# Altium schematic symbol library kmilo17pet-Maxim_Sensors.SchLib: 1172 symbols (part 5 of 61)
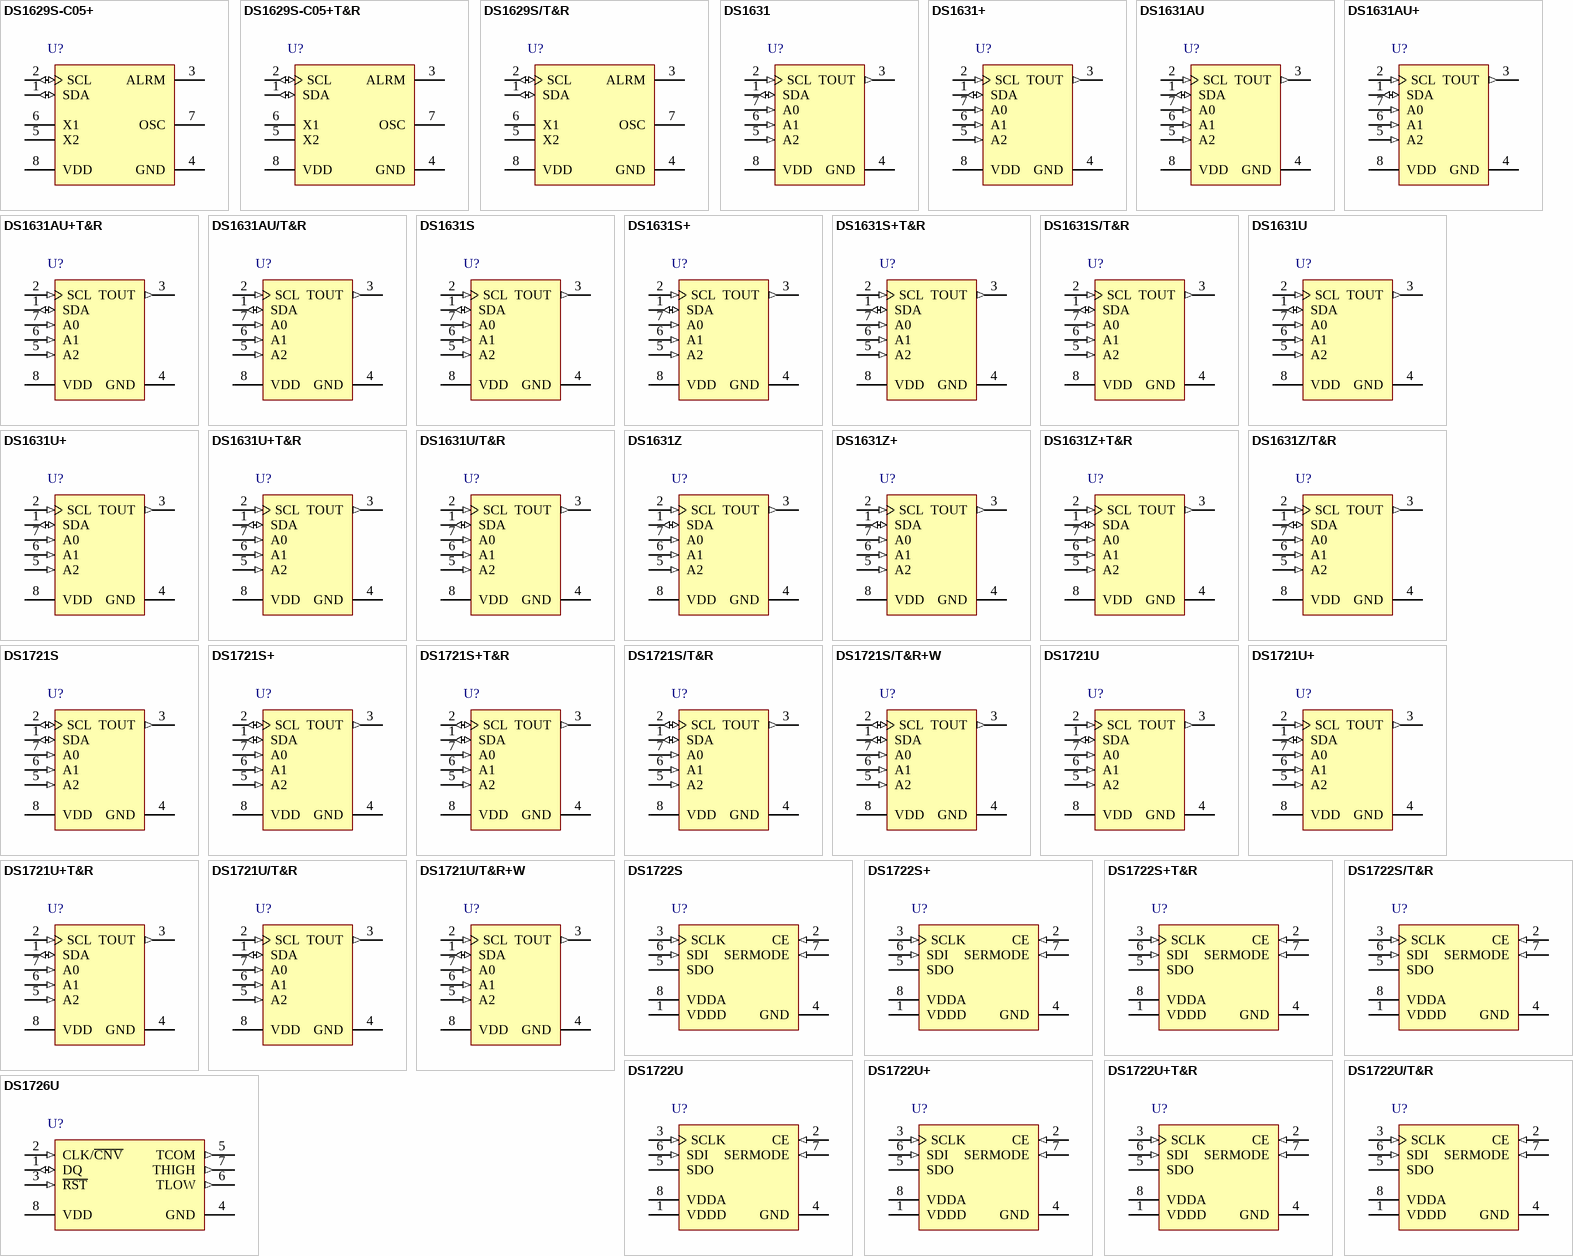
[diagram p37: symbols DS1629S-C05+ to DS1726U]

## DS1722S
designator U?
3-Wire / SPI Digital Thermometer, 8 to 12 Bits Temperature Resolution, -55 to 125 degC, 8-Pin SOIC (S8-2); Generic Part Number: DS1722; PartNumber: DS1722S; Parasite Pwr.: No; DatasheetVersion: Rev. 4; PackageVersion: Rev. D, 10/2012; PackageReference: S8-2; PackageDescription: 8-Pin Small-Outline IC, Narrow (0.15in) (S8-2), Body 4.90 x 3.90 mm, Pitch 1.27 mm; Supplier 1: Digi-Key; Supplier Part Number 1: DS1722S-ND; Supplier 2: Newark; Supplier Part Number 2: 16C2113; Supplier 3: Mouser; Supplier Part Number 3: 700-DS1722S-NR; Interface: 3-Wire/SPI; Mounting Technology: Surface Mount; Code_JEDEC: MS012; ComponentLink1Description: Manufacturer URL; ComponentLink1URL: http://www.maximintegrated.com/; ComponentLink2Description: Datasheet; ComponentLink2URL: http://datasheets.maximintegrated.com/en/ds/DS1722.pdf; ComponentLink3Description: Package Specification; ComponentLink3URL: http://pdfserv.maximintegrated.com/package_dwgs/21-0041.PDF
footprint MAXM-S8-2_N (SOIC, 8-Leads, Body 4.90x3.90mm, Pitch 1.27mm, IPC Medium Density)
footprint MAXM-S8-2_L (SOIC, 8-Leads, Body 4.90x3.90mm, Pitch 1.27mm, IPC High Density)
footprint MAXM-S8-2_M (SOIC, 8-Leads, Body 4.90x3.90mm, Pitch 1.27mm, IPC Low Density)
pins: 1 VDDD (power) "Digital Supply Voltage 1.8V-5.5V. Defines the top rails for the digital inputs and outputs.", 2 CE (in) "Chip Enable Must be asserted high for communication to take place for either the SPI or 3-wire interface.", 3 SCLK (in) "Serial Clock Input Used to synchronize data movement on the serial interface for either the SPI or 3-wire interface.", 4 GND (power) "Ground pin.", 5 SDO (hiz) "Serial Data Output When SPI communication is selected, the SDO pin is the serial data output for the SPI bus. When 3-wire communication is selected, this pin must be tied to the SDI pin (the SDI and SDO pins function as a (See Datasheet)", 6 SDI (in) "Serial Data Input When SPI communication is selected, the SDI pin is the serial data input for the SPI bus. When 3-wire communication is selected, this pin must be tied to the SDO pin (the SDI and SDO pins function as a (See Datasheet)", 7 SERMODE (in) "Serial Interface Mode Input This pin selects which interface standard will be used: SPI when connected to VCC ; standard 3-wire when connected to GND.", 8 VDDA (power) "Analog Supply Voltage 2.65V - 5.5V input power pin."

## DS1722S+
designator U?
3-Wire / SPI Digital Thermometer, 8 to 12 Bits Temperature Resolution, -55 to 125 degC, 8-Pin SOIC (S8+2), Pb-Free; Generic Part Number: DS1722; PartNumber: DS1722S+; Parasite Pwr.: No; DatasheetVersion: Rev. 4; PackageVersion: Rev. D, 10/2012; PackageReference: S8+2; PackageDescription: 8-Pin Small-Outline IC, Narrow (0.15in) (S8+2), Body 4.90 x 3.90 mm, Pitch 1.27 mm; Supplier 1: Digi-Key; Supplier Part Number 1: DS1722S+-ND; Supplier 2: Farnell; Supplier Part Number 2: 9724753; Supplier 3: Newark; Supplier Part Number 3: 91K6823; Supplier 4: Mouser; Supplier Part Number 4: 700-DS1722S; Interface: 3-Wire/SPI; Mounting Technology: Surface Mount; Code_JEDEC: MS012; ComponentLink1Description: Manufacturer URL; ComponentLink1URL: http://www.maximintegrated.com/; ComponentLink2Description: Datasheet; ComponentLink2URL: http://datasheets.maximintegrated.com/en/ds/DS1722.pdf; ComponentLink3Description: Package Specification; ComponentLink3URL: http://pdfserv.maximintegrated.com/package_dwgs/21-0041.PDF
footprint MAXM-S8+2_N (SOIC, 8-Leads, Body 4.90x3.90mm, Pitch 1.27mm, IPC Medium Density)
footprint MAXM-S8+2_L (SOIC, 8-Leads, Body 4.90x3.90mm, Pitch 1.27mm, IPC High Density)
footprint MAXM-S8+2_M (SOIC, 8-Leads, Body 4.90x3.90mm, Pitch 1.27mm, IPC Low Density)
pins: 1 VDDD (power) "Digital Supply Voltage 1.8V-5.5V. Defines the top rails for the digital inputs and outputs.", 2 CE (in) "Chip Enable Must be asserted high for communication to take place for either the SPI or 3-wire interface.", 3 SCLK (in) "Serial Clock Input Used to synchronize data movement on the serial interface for either the SPI or 3-wire interface.", 4 GND (power) "Ground pin.", 5 SDO (hiz) "Serial Data Output When SPI communication is selected, the SDO pin is the serial data output for the SPI bus. When 3-wire communication is selected, this pin must be tied to the SDI pin (the SDI and SDO pins function as a (See Datasheet)", 6 SDI (in) "Serial Data Input When SPI communication is selected, the SDI pin is the serial data input for the SPI bus. When 3-wire communication is selected, this pin must be tied to the SDO pin (the SDI and SDO pins function as a (See Datasheet)", 7 SERMODE (in) "Serial Interface Mode Input This pin selects which interface standard will be used: SPI when connected to VCC ; standard 3-wire when connected to GND.", 8 VDDA (power) "Analog Supply Voltage 2.65V - 5.5V input power pin."

## DS1722S+T&R
designator U?
3-Wire / SPI Digital Thermometer, 8 to 12 Bits Temperature Resolution, -55 to 125 degC, 8-Pin SOIC (S8+2), Pb-Free, Tape and Reel; Generic Part Number: DS1722; PartNumber: DS1722S+T&R; Parasite Pwr.: No; DatasheetVersion: Rev. 4; PackageVersion: Rev. D, 10/2012; PackageReference: S8+2; PackageDescription: 8-Pin Small-Outline IC, Narrow (0.15in) (S8+2), Body 4.90 x 3.90 mm, Pitch 1.27 mm; Supplier 1: Digi-Key; Supplier Part Number 1: DS1722S+TR-ND; Supplier 2: Digi-Key; Supplier Part Number 2: DS1722S+CT-ND; Supplier 3: Mouser; Supplier Part Number 3: 700-DS1722ST&R; Interface: 3-Wire/SPI; Packing: Tape and Reel; Mounting Technology: Surface Mount; Code_JEDEC: MS012; ComponentLink1Description: Manufacturer URL; ComponentLink1URL: http://www.maximintegrated.com/; ComponentLink2Description: Datasheet; ComponentLink2URL: http://datasheets.maximintegrated.com/en/ds/DS1722.pdf; ComponentLink3Description: Package Specification; ComponentLink3URL: http://pdfserv.maximintegrated.com/package_dwgs/21-0041.PDF
footprint MAXM-S8+2_N (SOIC, 8-Leads, Body 4.90x3.90mm, Pitch 1.27mm, IPC Medium Density)
footprint MAXM-S8+2_L (SOIC, 8-Leads, Body 4.90x3.90mm, Pitch 1.27mm, IPC High Density)
footprint MAXM-S8+2_M (SOIC, 8-Leads, Body 4.90x3.90mm, Pitch 1.27mm, IPC Low Density)
pins: 1 VDDD (power) "Digital Supply Voltage 1.8V-5.5V. Defines the top rails for the digital inputs and outputs.", 2 CE (in) "Chip Enable Must be asserted high for communication to take place for either the SPI or 3-wire interface.", 3 SCLK (in) "Serial Clock Input Used to synchronize data movement on the serial interface for either the SPI or 3-wire interface.", 4 GND (power) "Ground pin.", 5 SDO (hiz) "Serial Data Output When SPI communication is selected, the SDO pin is the serial data output for the SPI bus. When 3-wire communication is selected, this pin must be tied to the SDI pin (the SDI and SDO pins function as a (See Datasheet)", 6 SDI (in) "Serial Data Input When SPI communication is selected, the SDI pin is the serial data input for the SPI bus. When 3-wire communication is selected, this pin must be tied to the SDO pin (the SDI and SDO pins function as a (See Datasheet)", 7 SERMODE (in) "Serial Interface Mode Input This pin selects which interface standard will be used: SPI when connected to VCC ; standard 3-wire when connected to GND.", 8 VDDA (power) "Analog Supply Voltage 2.65V - 5.5V input power pin."

## DS1722S/T&R
designator U?
3-Wire / SPI Digital Thermometer, 8 to 12 Bits Temperature Resolution, -55 to 125 degC, 8-Pin SOIC (S8-2), Tape and Reel; Generic Part Number: DS1722; PartNumber: DS1722S/T&R; Parasite Pwr.: No; DatasheetVersion: Rev. 4; PackageVersion: Rev. D, 10/2012; PackageReference: S8-2; PackageDescription: 8-Pin Small-Outline IC, Narrow (0.15in) (S8-2), Body 4.90 x 3.90 mm, Pitch 1.27 mm; Supplier 1: Digi-Key; Supplier Part Number 1: DS1722S/T&R-ND; Supplier 2: Mouser; Supplier Part Number 2: N/A; Interface: 3-Wire/SPI; Packing: Tape and Reel; Mounting Technology: Surface Mount; Code_JEDEC: MS012; ComponentLink1Description: Manufacturer URL; ComponentLink1URL: http://www.maximintegrated.com/; ComponentLink2Description: Datasheet; ComponentLink2URL: http://datasheets.maximintegrated.com/en/ds/DS1722.pdf; ComponentLink3Description: Package Specification; ComponentLink3URL: http://pdfserv.maximintegrated.com/package_dwgs/21-0041.PDF
footprint MAXM-S8-2_N (SOIC, 8-Leads, Body 4.90x3.90mm, Pitch 1.27mm, IPC Medium Density)
footprint MAXM-S8-2_L (SOIC, 8-Leads, Body 4.90x3.90mm, Pitch 1.27mm, IPC High Density)
footprint MAXM-S8-2_M (SOIC, 8-Leads, Body 4.90x3.90mm, Pitch 1.27mm, IPC Low Density)
pins: 1 VDDD (power) "Digital Supply Voltage 1.8V-5.5V. Defines the top rails for the digital inputs and outputs.", 2 CE (in) "Chip Enable Must be asserted high for communication to take place for either the SPI or 3-wire interface.", 3 SCLK (in) "Serial Clock Input Used to synchronize data movement on the serial interface for either the SPI or 3-wire interface.", 4 GND (power) "Ground pin.", 5 SDO (hiz) "Serial Data Output When SPI communication is selected, the SDO pin is the serial data output for the SPI bus. When 3-wire communication is selected, this pin must be tied to the SDI pin (the SDI and SDO pins function as a (See Datasheet)", 6 SDI (in) "Serial Data Input When SPI communication is selected, the SDI pin is the serial data input for the SPI bus. When 3-wire communication is selected, this pin must be tied to the SDO pin (the SDI and SDO pins function as a (See Datasheet)", 7 SERMODE (in) "Serial Interface Mode Input This pin selects which interface standard will be used: SPI when connected to VCC ; standard 3-wire when connected to GND.", 8 VDDA (power) "Analog Supply Voltage 2.65V - 5.5V input power pin."

## DS1722U
designator U?
3-Wire / SPI Digital Thermometer, 8 to 12 Bits Temperature Resolution, -55 to 125 degC, 8-Pin SOP (U8-1); Generic Part Number: DS1722; PartNumber: DS1722U; Parasite Pwr.: No; DatasheetVersion: Rev. 4; PackageVersion: Rev. L, 08/2009; PackageReference: U8-1; PackageDescription: 8-Pin Micro-MAX, Thin Shrink Small-Outline (U8-1), Body 3 x 3 mm, Pitch 0.65mm; Supplier 1: Digi-Key; Supplier Part Number 1: DS1722U-ND; Supplier 2: Mouser; Supplier Part Number 2: N/A; Interface: 3-Wire/SPI; Mounting Technology: Surface Mount; Code_JEDEC: MO-187; ComponentLink1Description: Manufacturer URL; ComponentLink1URL: http://www.maximintegrated.com/; ComponentLink2Description: Datasheet; ComponentLink2URL: http://datasheets.maximintegrated.com/en/ds/DS1722.pdf; ComponentLink3Description: Package Specification; ComponentLink3URL: http://pdfserv.maximintegrated.com/package_dwgs/21-0036.PDF
footprint MAXM-U8-1_N (SOP, 8-Leads, Body 3x3mm, Pitch 0.65mm, IPC Medium Density)
footprint MAXM-U8-1_L (SOP, 8-Leads, Body 3x3mm, Pitch 0.65mm, IPC High Density)
footprint MAXM-U8-1_M (SOP, 8-Leads, Body 3x3mm, Pitch 0.65mm, IPC Low Density)
pins: 1 VDDD (power) "Digital Supply Voltage 1.8V-5.5V. Defines the top rails for the digital inputs and outputs.", 2 CE (in) "Chip Enable Must be asserted high for communication to take place for either the SPI or 3-wire interface.", 3 SCLK (in) "Serial Clock Input Used to synchronize data movement on the serial interface for either the SPI or 3-wire interface.", 4 GND (power) "Ground pin.", 5 SDO (hiz) "Serial Data Output When SPI communication is selected, the SDO pin is the serial data output for the SPI bus. When 3-wire communication is selected, this pin must be tied to the SDI pin (the SDI and SDO pins function as a (See Datasheet)", 6 SDI (in) "Serial Data Input When SPI communication is selected, the SDI pin is the serial data input for the SPI bus. When 3-wire communication is selected, this pin must be tied to the SDO pin (the SDI and SDO pins function as a (See Datasheet)", 7 SERMODE (in) "Serial Interface Mode Input This pin selects which interface standard will be used: SPI when connected to VCC ; standard 3-wire when connected to GND.", 8 VDDA (power) "Analog Supply Voltage 2.65V - 5.5V input power pin."

## DS1722U+
designator U?
3-Wire / SPI Digital Thermometer, 8 to 12 Bits Temperature Resolution, -55 to 125 degC, 8-Pin SOP (U8+1), Pb-Free; Generic Part Number: DS1722; PartNumber: DS1722U+; Parasite Pwr.: No; DatasheetVersion: Rev. 4; PackageVersion: Rev. L, 08/2009; PackageReference: U8+1; PackageDescription: 8-Pin Micro-MAX, Thin Shrink Small-Outline (U8+1), Body 3 x 3 mm, Pitch 0.65 mm; Supplier 1: Digi-Key; Supplier Part Number 1: DS1722U+-ND; Supplier 2: Mouser; Supplier Part Number 2: 700-DS1722U; Interface: 3-Wire/SPI; Mounting Technology: Surface Mount; Code_JEDEC: MO-187; ComponentLink1Description: Manufacturer URL; ComponentLink1URL: http://www.maximintegrated.com/; ComponentLink2Description: Datasheet; ComponentLink2URL: http://datasheets.maximintegrated.com/en/ds/DS1722.pdf; ComponentLink3Description: Package Specification; ComponentLink3URL: http://pdfserv.maximintegrated.com/package_dwgs/21-0036.PDF
footprint MAXM-U8+1_N (SOP, 8-Leads, Body 3x3mm, Pitch 0.65mm, IPC Medium Density)
footprint MAXM-U8+1_L (SOP, 8-Leads, Body 3x3mm, Pitch 0.65mm, IPC High Density)
footprint MAXM-U8+1_M (SOP, 8-Leads, Body 3x3mm, Pitch 0.65mm, IPC Low Density)
pins: 1 VDDD (power) "Digital Supply Voltage 1.8V-5.5V. Defines the top rails for the digital inputs and outputs.", 2 CE (in) "Chip Enable Must be asserted high for communication to take place for either the SPI or 3-wire interface.", 3 SCLK (in) "Serial Clock Input Used to synchronize data movement on the serial interface for either the SPI or 3-wire interface.", 4 GND (power) "Ground pin.", 5 SDO (hiz) "Serial Data Output When SPI communication is selected, the SDO pin is the serial data output for the SPI bus. When 3-wire communication is selected, this pin must be tied to the SDI pin (the SDI and SDO pins function as a (See Datasheet)", 6 SDI (in) "Serial Data Input When SPI communication is selected, the SDI pin is the serial data input for the SPI bus. When 3-wire communication is selected, this pin must be tied to the SDO pin (the SDI and SDO pins function as a (See Datasheet)", 7 SERMODE (in) "Serial Interface Mode Input This pin selects which interface standard will be used: SPI when connected to VCC ; standard 3-wire when connected to GND.", 8 VDDA (power) "Analog Supply Voltage 2.65V - 5.5V input power pin."

## DS1722U+T&R
designator U?
3-Wire / SPI Digital Thermometer, 8 to 12 Bits Temperature Resolution, -55 to 125 degC, 8-Pin SOP (U8+1), Pb-Free, Tape and Reel; Generic Part Number: DS1722; PartNumber: DS1722U+T&R; Parasite Pwr.: No; DatasheetVersion: Rev. 4; PackageVersion: Rev. L, 08/2009; PackageReference: U8+1; PackageDescription: 8-Pin Micro-MAX, Thin Shrink Small-Outline (U8+1), Body 3 x 3 mm, Pitch 0.65 mm; Supplier 1: Digi-Key; Supplier Part Number 1: DS1722U+T&R-ND; Supplier 2: Mouser; Supplier Part Number 2: 700-DS1722UT&R; Interface: 3-Wire/SPI; Packing: Tape and Reel; Mounting Technology: Surface Mount; Code_JEDEC: MO-187; ComponentLink1Description: Manufacturer URL; ComponentLink1URL: http://www.maximintegrated.com/; ComponentLink2Description: Datasheet; ComponentLink2URL: http://datasheets.maximintegrated.com/en/ds/DS1722.pdf; ComponentLink3Description: Package Specification; ComponentLink3URL: http://pdfserv.maximintegrated.com/package_dwgs/21-0036.PDF
footprint MAXM-U8+1_N (SOP, 8-Leads, Body 3x3mm, Pitch 0.65mm, IPC Medium Density)
footprint MAXM-U8+1_L (SOP, 8-Leads, Body 3x3mm, Pitch 0.65mm, IPC High Density)
footprint MAXM-U8+1_M (SOP, 8-Leads, Body 3x3mm, Pitch 0.65mm, IPC Low Density)
pins: 1 VDDD (power) "Digital Supply Voltage 1.8V-5.5V. Defines the top rails for the digital inputs and outputs.", 2 CE (in) "Chip Enable Must be asserted high for communication to take place for either the SPI or 3-wire interface.", 3 SCLK (in) "Serial Clock Input Used to synchronize data movement on the serial interface for either the SPI or 3-wire interface.", 4 GND (power) "Ground pin.", 5 SDO (hiz) "Serial Data Output When SPI communication is selected, the SDO pin is the serial data output for the SPI bus. When 3-wire communication is selected, this pin must be tied to the SDI pin (the SDI and SDO pins function as a (See Datasheet)", 6 SDI (in) "Serial Data Input When SPI communication is selected, the SDI pin is the serial data input for the SPI bus. When 3-wire communication is selected, this pin must be tied to the SDO pin (the SDI and SDO pins function as a (See Datasheet)", 7 SERMODE (in) "Serial Interface Mode Input This pin selects which interface standard will be used: SPI when connected to VCC ; standard 3-wire when connected to GND.", 8 VDDA (power) "Analog Supply Voltage 2.65V - 5.5V input power pin."

## DS1722U/T&R
designator U?
3-Wire / SPI Digital Thermometer, 8 to 12 Bits Temperature Resolution, -55 to 125 degC, 8-Pin SOP (U8-1), Tape and Reel; Generic Part Number: DS1722; PartNumber: DS1722U/T&R; Parasite Pwr.: No; DatasheetVersion: Rev. 4; PackageVersion: Rev. L, 08/2009; PackageReference: U8-1; PackageDescription: 8-Pin Micro-MAX, Thin Shrink Small-Outline (U8-1), Body 3 x 3 mm, Pitch 0.65mm; Supplier 1: Digi-Key; Supplier Part Number 1: DS1722U/T&R-ND; Supplier 2: Mouser; Supplier Part Number 2: N/A; Interface: 3-Wire/SPI; Packing: Tape and Reel; Mounting Technology: Surface Mount; Code_JEDEC: MO-187; ComponentLink1Description: Manufacturer URL; ComponentLink1URL: http://www.maximintegrated.com/; ComponentLink2Description: Datasheet; ComponentLink2URL: http://datasheets.maximintegrated.com/en/ds/DS1722.pdf; ComponentLink3Description: Package Specification; ComponentLink3URL: http://pdfserv.maximintegrated.com/package_dwgs/21-0036.PDF
footprint MAXM-U8-1_N (SOP, 8-Leads, Body 3x3mm, Pitch 0.65mm, IPC Medium Density)
footprint MAXM-U8-1_L (SOP, 8-Leads, Body 3x3mm, Pitch 0.65mm, IPC High Density)
footprint MAXM-U8-1_M (SOP, 8-Leads, Body 3x3mm, Pitch 0.65mm, IPC Low Density)
pins: 1 VDDD (power) "Digital Supply Voltage 1.8V-5.5V. Defines the top rails for the digital inputs and outputs.", 2 CE (in) "Chip Enable Must be asserted high for communication to take place for either the SPI or 3-wire interface.", 3 SCLK (in) "Serial Clock Input Used to synchronize data movement on the serial interface for either the SPI or 3-wire interface.", 4 GND (power) "Ground pin.", 5 SDO (hiz) "Serial Data Output When SPI communication is selected, the SDO pin is the serial data output for the SPI bus. When 3-wire communication is selected, this pin must be tied to the SDI pin (the SDI and SDO pins function as a (See Datasheet)", 6 SDI (in) "Serial Data Input When SPI communication is selected, the SDI pin is the serial data input for the SPI bus. When 3-wire communication is selected, this pin must be tied to the SDO pin (the SDI and SDO pins function as a (See Datasheet)", 7 SERMODE (in) "Serial Interface Mode Input This pin selects which interface standard will be used: SPI when connected to VCC ; standard 3-wire when connected to GND.", 8 VDDA (power) "Analog Supply Voltage 2.65V - 5.5V input power pin."

## DS1726U
designator U?
3-Wire + / -1 degC Accurate Digital Thermometer and Thermostat, -55 to 125 degC, 8-Pin SOP (U8-1); Generic Part Number: DS1726; PartNumber: DS1726U; Functions: Dual Output Temperature Switch, Dual Temperature Alarms, Standalone Thermostat, Temperature Switch/Temperature Comparator; Interface: 3-Wire, Logic; Switch Type: Local; DatasheetVersion: Rev. 4; PackageVersion: Rev. L, 08/2009; PackageReference: U8-1; PackageDescription: 8-Pin Micro-MAX, Thin Shrink Small-Outline (U8-1), Body 3 x 3 mm, Pitch 0.65mm; Supplier 1: Mouser; Supplier Part Number 1: N/A; Mounting Technology: Surface Mount; Code_JEDEC: MO-187; ComponentLink1Description: Manufacturer URL; ComponentLink1URL: http://www.maximintegrated.com/; ComponentLink2Description: Datasheet; ComponentLink2URL: http://datasheets.maximintegrated.com/en/ds/DS1626-DS1726.pdf; ComponentLink3Description: Package Specification; ComponentLink3URL: http://pdfserv.maximintegrated.com/package_dwgs/21-0036.PDF
footprint MAXM-U8-1_N (SOP, 8-Leads, Body 3x3mm, Pitch 0.65mm, IPC Medium Density)
footprint MAXM-U8-1_L (SOP, 8-Leads, Body 3x3mm, Pitch 0.65mm, IPC High Density)
footprint MAXM-U8-1_M (SOP, 8-Leads, Body 3x3mm, Pitch 0.65mm, IPC Low Density)
pins: 1 DQ (io) "Data Input/Output Pin (Tri-State) for 3-Wire Serial Communication", 2 CLK/~{CNV} (in) "Clock Input Pin for 3-Wire Serial Communication. Controls temperature measurements when the DS1626/DS1726 is configured as a stand-alone thermostat", 3 ~{RST} (in) "Reset Input Pin for 3-Wire Serial Communication", 4 GND (power) "Ground Pin", 5 TCOM (out) "Thermostat Output Pin (Push-Pull) with Programmable Hysteresis", 6 TLOW (out) "Thermostat Output Pin (Push-Pull) with TL Trip Point", 7 THIGH (out) "Thermostat Output Pin (Push-Pull) with TH Trip Point", 8 VDD (power) "Supply Voltage. +2.7V to +5.5V input power pin."

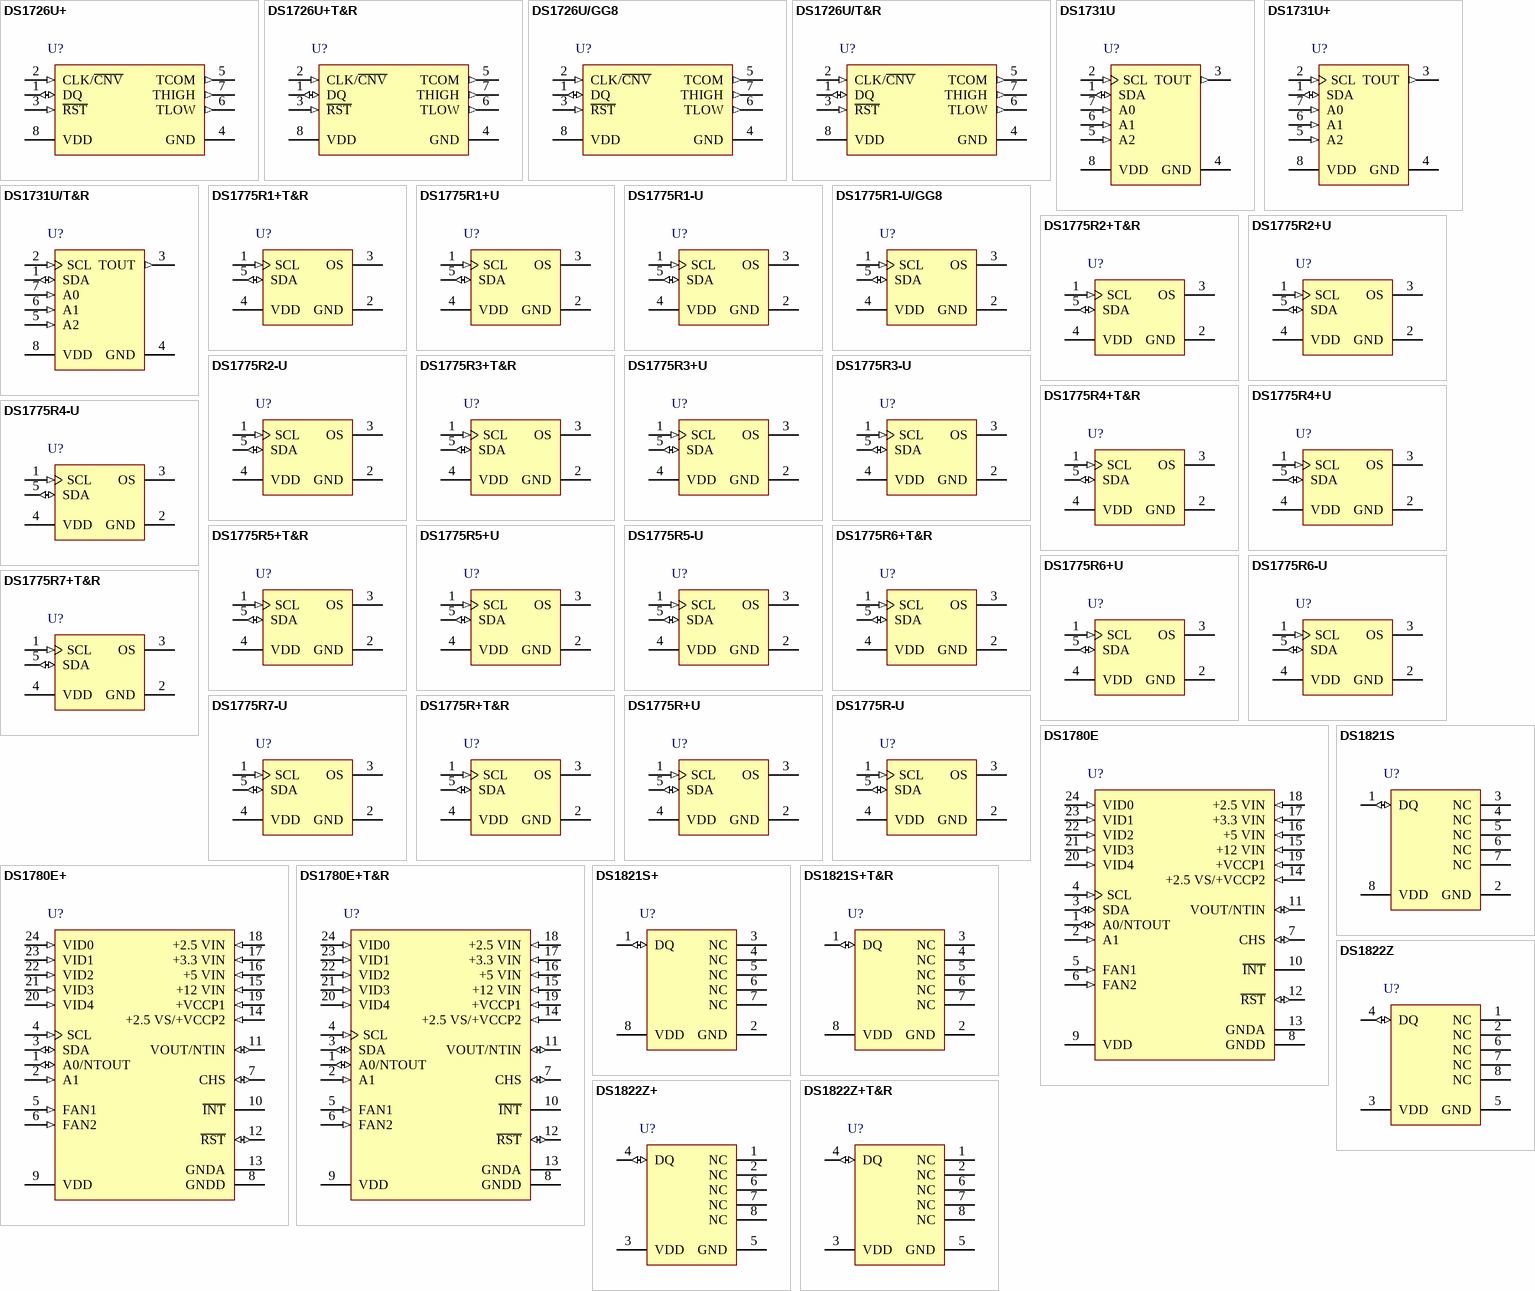
[diagram p3: symbols DS1726U+ to DS1822Z+T&R]

## DS1726U+
designator U?
3-Wire + / -1 degC Accurate Digital Thermometer and Thermostat, -55 to 125 degC, 8-Pin SOP (U8+1), Pb-Free; Generic Part Number: DS1726; PartNumber: DS1726U+; Functions: Dual Output Temperature Switch, Dual Temperature Alarms, Standalone Thermostat, Temperature Switch/Temperature Comparator; Interface: 3-Wire, Logic; Switch Type: Local; DatasheetVersion: Rev. 4; PackageVersion: Rev. L, 08/2009; PackageReference: U8+1; PackageDescription: 8-Pin Micro-MAX, Thin Shrink Small-Outline (U8+1), Body 3 x 3 mm, Pitch 0.65 mm; Supplier 1: Digi-Key; Supplier Part Number 1: DS1726U+-ND; Supplier 2: Mouser; Supplier Part Number 2: 700-DS1726U; RoHS: Pb-Free; Mounting Technology: Surface Mount; Code_JEDEC: MO-187; ComponentLink1Description: Manufacturer URL; ComponentLink1URL: http://www.maximintegrated.com/; ComponentLink2Description: Datasheet; ComponentLink2URL: http://datasheets.maximintegrated.com/en/ds/DS1626-DS1726.pdf; ComponentLink3Description: Package Specification; ComponentLink3URL: http://pdfserv.maximintegrated.com/package_dwgs/21-0036.PDF
footprint MAXM-U8+1_N (SOP, 8-Leads, Body 3x3mm, Pitch 0.65mm, IPC Medium Density)
footprint MAXM-U8+1_L (SOP, 8-Leads, Body 3x3mm, Pitch 0.65mm, IPC High Density)
footprint MAXM-U8+1_M (SOP, 8-Leads, Body 3x3mm, Pitch 0.65mm, IPC Low Density)
pins: 1 DQ (io) "Data Input/Output Pin (Tri-State) for 3-Wire Serial Communication", 2 CLK/~{CNV} (in) "Clock Input Pin for 3-Wire Serial Communication. Controls temperature measurements when the DS1626/DS1726 is configured as a stand-alone thermostat", 3 ~{RST} (in) "Reset Input Pin for 3-Wire Serial Communication", 4 GND (power) "Ground Pin", 5 TCOM (out) "Thermostat Output Pin (Push-Pull) with Programmable Hysteresis", 6 TLOW (out) "Thermostat Output Pin (Push-Pull) with TL Trip Point", 7 THIGH (out) "Thermostat Output Pin (Push-Pull) with TH Trip Point", 8 VDD (power) "Supply Voltage. +2.7V to +5.5V input power pin."

## DS1726U+T&R
designator U?
3-Wire + / -1 degC Accurate Digital Thermometer and Thermostat, -55 to 125 degC, 8-Pin SOP (U8+1), Pb-Free, Tape and Reel; Generic Part Number: DS1726; PartNumber: DS1726U+T&R; Functions: Dual Output Temperature Switch, Dual Temperature Alarms, Standalone Thermostat, Temperature Switch/Temperature Comparator; Interface: 3-Wire, Logic; Switch Type: Local; DatasheetVersion: Rev. 4; PackageVersion: Rev. L, 08/2009; PackageReference: U8+1; PackageDescription: 8-Pin Micro-MAX, Thin Shrink Small-Outline (U8+1), Body 3 x 3 mm, Pitch 0.65 mm; Supplier 1: Digi-Key; Supplier Part Number 1: DS1726U+T&R-ND; Supplier 2: Mouser; Supplier Part Number 2: 700-DS1726UT&R; Packing: Tape and Reel; RoHS: Pb-Free; Mounting Technology: Surface Mount; Code_JEDEC: MO-187; ComponentLink1Description: Manufacturer URL; ComponentLink1URL: http://www.maximintegrated.com/; ComponentLink2Description: Datasheet; ComponentLink2URL: http://datasheets.maximintegrated.com/en/ds/DS1626-DS1726.pdf; ComponentLink3Description: Package Specification; ComponentLink3URL: http://pdfserv.maximintegrated.com/package_dwgs/21-0036.PDF
footprint MAXM-U8+1_N (SOP, 8-Leads, Body 3x3mm, Pitch 0.65mm, IPC Medium Density)
footprint MAXM-U8+1_L (SOP, 8-Leads, Body 3x3mm, Pitch 0.65mm, IPC High Density)
footprint MAXM-U8+1_M (SOP, 8-Leads, Body 3x3mm, Pitch 0.65mm, IPC Low Density)
pins: 1 DQ (io) "Data Input/Output Pin (Tri-State) for 3-Wire Serial Communication", 2 CLK/~{CNV} (in) "Clock Input Pin for 3-Wire Serial Communication. Controls temperature measurements when the DS1626/DS1726 is configured as a stand-alone thermostat", 3 ~{RST} (in) "Reset Input Pin for 3-Wire Serial Communication", 4 GND (power) "Ground Pin", 5 TCOM (out) "Thermostat Output Pin (Push-Pull) with Programmable Hysteresis", 6 TLOW (out) "Thermostat Output Pin (Push-Pull) with TL Trip Point", 7 THIGH (out) "Thermostat Output Pin (Push-Pull) with TH Trip Point", 8 VDD (power) "Supply Voltage. +2.7V to +5.5V input power pin."

## DS1726U/GG8
designator U?
3-Wire + / -1 degC Accurate Digital Thermometer and Thermostat, -55 to 125 degC, 8-Pin SOP (U8-1); Generic Part Number: DS1726; PartNumber: DS1726U/GG8; Functions: Dual Output Temperature Switch, Dual Temperature Alarms, Standalone Thermostat, Temperature Switch/Temperature Comparator; Interface: 3-Wire, Logic; Switch Type: Local; DatasheetVersion: Rev. 4; PackageVersion: Rev. L, 08/2009; PackageReference: U8-1; PackageDescription: 8-Pin Micro-MAX, Thin Shrink Small-Outline (U8-1), Body 3 x 3 mm, Pitch 0.65mm; Supplier 1: Mouser; Supplier Part Number 1: N/A; Mounting Technology: Surface Mount; Code_JEDEC: MO-187; ComponentLink1Description: Manufacturer URL; ComponentLink1URL: http://www.maximintegrated.com/; ComponentLink2Description: Datasheet; ComponentLink2URL: http://datasheets.maximintegrated.com/en/ds/DS1626-DS1726.pdf; ComponentLink3Description: Package Specification; ComponentLink3URL: http://pdfserv.maximintegrated.com/package_dwgs/21-0036.PDF
footprint MAXM-U8-1_N (SOP, 8-Leads, Body 3x3mm, Pitch 0.65mm, IPC Medium Density)
footprint MAXM-U8-1_L (SOP, 8-Leads, Body 3x3mm, Pitch 0.65mm, IPC High Density)
footprint MAXM-U8-1_M (SOP, 8-Leads, Body 3x3mm, Pitch 0.65mm, IPC Low Density)
pins: 1 DQ (io) "Data Input/Output Pin (Tri-State) for 3-Wire Serial Communication", 2 CLK/~{CNV} (in) "Clock Input Pin for 3-Wire Serial Communication. Controls temperature measurements when the DS1626/DS1726 is configured as a stand-alone thermostat", 3 ~{RST} (in) "Reset Input Pin for 3-Wire Serial Communication", 4 GND (power) "Ground Pin", 5 TCOM (out) "Thermostat Output Pin (Push-Pull) with Programmable Hysteresis", 6 TLOW (out) "Thermostat Output Pin (Push-Pull) with TL Trip Point", 7 THIGH (out) "Thermostat Output Pin (Push-Pull) with TH Trip Point", 8 VDD (power) "Supply Voltage. +2.7V to +5.5V input power pin."

## DS1726U/T&R
designator U?
3-Wire + / -1 degC Accurate Digital Thermometer and Thermostat, -55 to 125 degC, 8-Pin SOP (U8-1), Tape and Reel; Generic Part Number: DS1726; PartNumber: DS1726U/T&R; Functions: Dual Output Temperature Switch, Dual Temperature Alarms, Standalone Thermostat, Temperature Switch/Temperature Comparator; Interface: 3-Wire, Logic; Switch Type: Local; DatasheetVersion: Rev. 4; PackageVersion: Rev. L, 08/2009; PackageReference: U8-1; PackageDescription: 8-Pin Micro-MAX, Thin Shrink Small-Outline (U8-1), Body 3 x 3 mm, Pitch 0.65mm; Supplier 1: Mouser; Supplier Part Number 1: N/A; Packing: Tape and Reel; Mounting Technology: Surface Mount; Code_JEDEC: MO-187; ComponentLink1Description: Manufacturer URL; ComponentLink1URL: http://www.maximintegrated.com/; ComponentLink2Description: Datasheet; ComponentLink2URL: http://datasheets.maximintegrated.com/en/ds/DS1626-DS1726.pdf; ComponentLink3Description: Package Specification; ComponentLink3URL: http://pdfserv.maximintegrated.com/package_dwgs/21-0036.PDF
footprint MAXM-U8-1_N (SOP, 8-Leads, Body 3x3mm, Pitch 0.65mm, IPC Medium Density)
footprint MAXM-U8-1_L (SOP, 8-Leads, Body 3x3mm, Pitch 0.65mm, IPC High Density)
footprint MAXM-U8-1_M (SOP, 8-Leads, Body 3x3mm, Pitch 0.65mm, IPC Low Density)
pins: 1 DQ (io) "Data Input/Output Pin (Tri-State) for 3-Wire Serial Communication", 2 CLK/~{CNV} (in) "Clock Input Pin for 3-Wire Serial Communication. Controls temperature measurements when the DS1626/DS1726 is configured as a stand-alone thermostat", 3 ~{RST} (in) "Reset Input Pin for 3-Wire Serial Communication", 4 GND (power) "Ground Pin", 5 TCOM (out) "Thermostat Output Pin (Push-Pull) with Programmable Hysteresis", 6 TLOW (out) "Thermostat Output Pin (Push-Pull) with TL Trip Point", 7 THIGH (out) "Thermostat Output Pin (Push-Pull) with TH Trip Point", 8 VDD (power) "Supply Voltage. +2.7V to +5.5V input power pin."

## DS1731U
designator U?
+ / -1 degC Digital Thermometer and Thermostat, 9 to 12 Bits Temperature Resolution, -55 to 125 degC, 8-Pin SOP (U8-1); Generic Part Number: DS1731; PartNumber: DS1731U; Interface: 2-Wire/I2C/SMBus; Multi Droppable: Yes; Parasite Pwr.: No; DatasheetVersion: Rev. 2; PackageVersion: Rev. L, 08/2009; PackageReference: U8-1; PackageDescription: 8-Pin Micro-MAX, Thin Shrink Small-Outline (U8-1), Body 3 x 3 mm, Pitch 0.65mm; Supplier 1: Mouser; Supplier Part Number 1: N/A; Mounting Technology: Surface Mount; Code_JEDEC: MO-187; ComponentLink1Description: Manufacturer URL; ComponentLink1URL: http://www.maximintegrated.com/; ComponentLink2Description: Datasheet; ComponentLink2URL: http://datasheets.maximintegrated.com/en/ds/DS1631-DS1731.pdf; ComponentLink3Description: Package Specification; ComponentLink3URL: http://pdfserv.maximintegrated.com/package_dwgs/21-0036.PDF
footprint MAXM-U8-1_N (SOP, 8-Leads, Body 3x3mm, Pitch 0.65mm, IPC Medium Density)
footprint MAXM-U8-1_L (SOP, 8-Leads, Body 3x3mm, Pitch 0.65mm, IPC High Density)
footprint MAXM-U8-1_M (SOP, 8-Leads, Body 3x3mm, Pitch 0.65mm, IPC Low Density)
pins: 1 SDA (io) "Data Input/Output Pin for 2-Wire Serial Communication Port. Open-Drain.", 2 SCL (in) "Clock Input Pin for 2-Wire Serial Communication Port.", 3 TOUT (out) "Thermostat Output Pin. Push-Pull.", 4 GND (power) "Ground Pin", 5 A2 (in) "Address Input Pin", 6 A1 (in) "Address Input Pin", 7 A0 (in) "Address Input Pin", 8 VDD (power) "Supply Voltage Pin. +2.7V to +5.5V Power-Supply Pin."

## DS1731U+
designator U?
+ / -1 degC Digital Thermometer and Thermostat, 9 to 12 Bits Temperature Resolution, -55 to 125 degC, 8-Pin SOP (U8+1), Pb-Free; Generic Part Number: DS1731; PartNumber: DS1731U+; Interface: 2-Wire/I2C/SMBus; Multi Droppable: Yes; Parasite Pwr.: No; DatasheetVersion: Rev. 2; PackageVersion: Rev. L, 08/2009; PackageReference: U8+1; PackageDescription: 8-Pin Micro-MAX, Thin Shrink Small-Outline (U8+1), Body 3 x 3 mm, Pitch 0.65 mm; Supplier 1: Digi-Key; Supplier Part Number 1: DS1731U+-ND; Supplier 2: Mouser; Supplier Part Number 2: 700-DS1731U; Mounting Technology: Surface Mount; Code_JEDEC: MO-187; ComponentLink1Description: Manufacturer URL; ComponentLink1URL: http://www.maximintegrated.com/; ComponentLink2Description: Datasheet; ComponentLink2URL: http://datasheets.maximintegrated.com/en/ds/DS1631-DS1731.pdf; ComponentLink3Description: Package Specification; ComponentLink3URL: http://pdfserv.maximintegrated.com/package_dwgs/21-0036.PDF
footprint MAXM-U8+1_N (SOP, 8-Leads, Body 3x3mm, Pitch 0.65mm, IPC Medium Density)
footprint MAXM-U8+1_L (SOP, 8-Leads, Body 3x3mm, Pitch 0.65mm, IPC High Density)
footprint MAXM-U8+1_M (SOP, 8-Leads, Body 3x3mm, Pitch 0.65mm, IPC Low Density)
pins: 1 SDA (io) "Data Input/Output Pin for 2-Wire Serial Communication Port. Open-Drain.", 2 SCL (in) "Clock Input Pin for 2-Wire Serial Communication Port.", 3 TOUT (out) "Thermostat Output Pin. Push-Pull.", 4 GND (power) "Ground Pin", 5 A2 (in) "Address Input Pin", 6 A1 (in) "Address Input Pin", 7 A0 (in) "Address Input Pin", 8 VDD (power) "Supply Voltage Pin. +2.7V to +5.5V Power-Supply Pin."

## DS1731U/T&R
designator U?
+ / -1 degC Digital Thermometer and Thermostat, 9 to 12 Bits Temperature Resolution, -55 to 125 degC, 8-Pin SOP (U8-1), Tape and Reel; Generic Part Number: DS1731; PartNumber: DS1731U/T&R; Interface: 2-Wire/I2C/SMBus; Multi Droppable: Yes; Parasite Pwr.: No; DatasheetVersion: Rev. 2; PackageVersion: Rev. L, 08/2009; PackageReference: U8-1; PackageDescription: 8-Pin Micro-MAX, Thin Shrink Small-Outline (U8-1), Body 3 x 3 mm, Pitch 0.65mm; Supplier 1: Mouser; Supplier Part Number 1: N/A; Packing: Tape and Reel; Mounting Technology: Surface Mount; Code_JEDEC: MO-187; ComponentLink1Description: Manufacturer URL; ComponentLink1URL: http://www.maximintegrated.com/; ComponentLink2Description: Datasheet; ComponentLink2URL: http://datasheets.maximintegrated.com/en/ds/DS1631-DS1731.pdf; ComponentLink3Description: Package Specification; ComponentLink3URL: http://pdfserv.maximintegrated.com/package_dwgs/21-0036.PDF
footprint MAXM-U8-1_N (SOP, 8-Leads, Body 3x3mm, Pitch 0.65mm, IPC Medium Density)
footprint MAXM-U8-1_L (SOP, 8-Leads, Body 3x3mm, Pitch 0.65mm, IPC High Density)
footprint MAXM-U8-1_M (SOP, 8-Leads, Body 3x3mm, Pitch 0.65mm, IPC Low Density)
pins: 1 SDA (io) "Data Input/Output Pin for 2-Wire Serial Communication Port. Open-Drain.", 2 SCL (in) "Clock Input Pin for 2-Wire Serial Communication Port.", 3 TOUT (out) "Thermostat Output Pin. Push-Pull.", 4 GND (power) "Ground Pin", 5 A2 (in) "Address Input Pin", 6 A1 (in) "Address Input Pin", 7 A0 (in) "Address Input Pin", 8 VDD (power) "Supply Voltage Pin. +2.7V to +5.5V Power-Supply Pin."

## DS1775R1+T&R
designator U?
Tiny Digital Thermometer and Thermostat, 9 to 12 Bits Temperature Resolution, -55 to 125 degC, 5-Pin SOT23 (U5+1), Pb-Free, Tape and Reel; Generic Part Number: DS1775; PartNumber: DS1775R1+T&R; Interface: 2-Wire/I2C/SMBus; Multi Droppable: Yes; Parasite Pwr.: No; DatasheetVersion: Rev. 1; PackageVersion: Rev. G, 04/2011; PackageReference: U5+1; PackageDescription: 5-Pin Small-Outline Transistor Package (U5+1), Body 2.90 x 1.625 mm, Pitch 0.95 mm; Supplier 1: Digi-Key; Supplier Part Number 1: DS1775R1+T&R-ND; Supplier 2: Mouser; Supplier Part Number 2: 700-DS1775R1T&R; Packing: Tape and Reel; Mounting Technology: Surface Mount; Code_JEDEC: MO178; ComponentLink1Description: Manufacturer URL; ComponentLink1URL: http://www.maximintegrated.com/; ComponentLink2Description: Datasheet; ComponentLink2URL: http://datasheets.maximintegrated.com/en/ds/DS1775-DS1775R.pdf; ComponentLink3Description: Package Specification; ComponentLink3URL: http://pdfserv.maximintegrated.com/package_dwgs/21-0057.PDF
footprint MAXM-U5+1_N (SOT23, 5-Leads, Body 2.9x1.625mm, Pitch 0.95mm, IPC Medium Density)
footprint MAXM-U5+1_L (SOT23, 5-Leads, Body 2.9x1.625mm, Pitch 0.95mm, IPC High Density)
footprint MAXM-U5+1_M (SOT23, 5-Leads, Body 2.9x1.625mm, Pitch 0.95mm, IPC Low Density)
pins: 1 SCL (in) "Clock input/output pin for 2-wire serial communication port. This input should be tied to GND for standalone thermostat operation.", 2 GND (power) "Ground pin.", 3 OS (oc) "Thermostat output Open-drain output becomes active when temperature exceeds TOS. Device configuration defines means to clear over-temperature state.", 4 VDD (power) "Supply Voltage 2.7V - 5.5V input power pin.", 5 SDA (io) "Data input/output pin for 2-wire serial communication port. In the standalone thermostat mode, this input selects hysteresis."

## DS1775R1+U
designator U?
Tiny Digital Thermometer and Thermostat, 9 to 12 Bits Temperature Resolution, -55 to 125 degC, 5-Pin SOT23 (U5+1), Pb-Free; Generic Part Number: DS1775; PartNumber: DS1775R1+U; Interface: 2-Wire/I2C/SMBus; Multi Droppable: Yes; Parasite Pwr.: No; DatasheetVersion: Rev. 1; PackageVersion: Rev. G, 04/2011; PackageReference: U5+1; PackageDescription: 5-Pin Small-Outline Transistor Package (U5+1), Body 2.90 x 1.625 mm, Pitch 0.95 mm; Supplier 1: Mouser; Supplier Part Number 1: 700-DS1775R1+U; Mounting Technology: Surface Mount; Code_JEDEC: MO178; ComponentLink1Description: Manufacturer URL; ComponentLink1URL: http://www.maximintegrated.com/; ComponentLink2Description: Datasheet; ComponentLink2URL: http://datasheets.maximintegrated.com/en/ds/DS1775-DS1775R.pdf; ComponentLink3Description: Package Specification; ComponentLink3URL: http://pdfserv.maximintegrated.com/package_dwgs/21-0057.PDF
footprint MAXM-U5+1_N (SOT23, 5-Leads, Body 2.9x1.625mm, Pitch 0.95mm, IPC Medium Density)
footprint MAXM-U5+1_L (SOT23, 5-Leads, Body 2.9x1.625mm, Pitch 0.95mm, IPC High Density)
footprint MAXM-U5+1_M (SOT23, 5-Leads, Body 2.9x1.625mm, Pitch 0.95mm, IPC Low Density)
pins: 1 SCL (in) "Clock input/output pin for 2-wire serial communication port. This input should be tied to GND for standalone thermostat operation.", 2 GND (power) "Ground pin.", 3 OS (oc) "Thermostat output Open-drain output becomes active when temperature exceeds TOS. Device configuration defines means to clear over-temperature state.", 4 VDD (power) "Supply Voltage 2.7V - 5.5V input power pin.", 5 SDA (io) "Data input/output pin for 2-wire serial communication port. In the standalone thermostat mode, this input selects hysteresis."

## DS1775R1-U
designator U?
Tiny Digital Thermometer and Thermostat, 9 to 12 Bits Temperature Resolution, -55 to 125 degC, 5-Pin SOT23 (U5-1); Generic Part Number: DS1775; PartNumber: DS1775R1-U; Interface: 2-Wire/I2C/SMBus; Multi Droppable: Yes; Parasite Pwr.: No; DatasheetVersion: Rev. 1; PackageVersion: Rev. G, 04/2011; PackageReference: U5-1; PackageDescription: 5-Pin Small-Outline Transistor Package (U5-1), Body 2.9 x 1.625 mm, Pitch 0.95 mm; Supplier 1: Mouser; Supplier Part Number 1: N/A; Mounting Technology: Surface Mount; Code_JEDEC: MO178; ComponentLink1Description: Manufacturer URL; ComponentLink1URL: http://www.maximintegrated.com/; ComponentLink2Description: Datasheet; ComponentLink2URL: http://datasheets.maximintegrated.com/en/ds/DS1775-DS1775R.pdf; ComponentLink3Description: Package Specification; ComponentLink3URL: http://pdfserv.maximintegrated.com/package_dwgs/21-0057.PDF
footprint MAXM-U5-1_N (SOT23, 5-Leads, Body 2.9x1.625mm, Pitch 0.95mm, IPC Medium Density)
footprint MAXM-U5-1_L (SOT23, 5-Leads, Body 2.9x1.625mm, Pitch 0.95mm, IPC High Density)
footprint MAXM-U5-1_M (SOT23, 5-Leads, Body 2.9x1.625mm, Pitch 0.95mm, IPC Low Density)
pins: 1 SCL (in) "Clock input/output pin for 2-wire serial communication port. This input should be tied to GND for standalone thermostat operation.", 2 GND (power) "Ground pin.", 3 OS (oc) "Thermostat output Open-drain output becomes active when temperature exceeds TOS. Device configuration defines means to clear over-temperature state.", 4 VDD (power) "Supply Voltage 2.7V - 5.5V input power pin.", 5 SDA (io) "Data input/output pin for 2-wire serial communication port. In the standalone thermostat mode, this input selects hysteresis."

## DS1775R1-U/GG8
designator U?
Tiny Digital Thermometer and Thermostat, 9 to 12 Bits Temperature Resolution, -55 to 125 degC, 5-Pin SOT23 (U5-1); Generic Part Number: DS1775; PartNumber: DS1775R1-U/GG8; Interface: 2-Wire/I2C/SMBus; Multi Droppable: Yes; Parasite Pwr.: No; DatasheetVersion: Rev. 1; PackageVersion: Rev. G, 04/2011; PackageReference: U5-1; PackageDescription: 5-Pin Small-Outline Transistor Package (U5-1), Body 2.9 x 1.625 mm, Pitch 0.95 mm; Supplier 1: Mouser; Supplier Part Number 1: N/A; Mounting Technology: Surface Mount; Code_JEDEC: MO178; ComponentLink1Description: Manufacturer URL; ComponentLink1URL: http://www.maximintegrated.com/; ComponentLink2Description: Datasheet; ComponentLink2URL: http://datasheets.maximintegrated.com/en/ds/DS1775-DS1775R.pdf; ComponentLink3Description: Package Specification; ComponentLink3URL: http://pdfserv.maximintegrated.com/package_dwgs/21-0057.PDF
footprint MAXM-U5-1_N (SOT23, 5-Leads, Body 2.9x1.625mm, Pitch 0.95mm, IPC Medium Density)
footprint MAXM-U5-1_L (SOT23, 5-Leads, Body 2.9x1.625mm, Pitch 0.95mm, IPC High Density)
footprint MAXM-U5-1_M (SOT23, 5-Leads, Body 2.9x1.625mm, Pitch 0.95mm, IPC Low Density)
pins: 1 SCL (in) "Clock input/output pin for 2-wire serial communication port. This input should be tied to GND for standalone thermostat operation.", 2 GND (power) "Ground pin.", 3 OS (oc) "Thermostat output Open-drain output becomes active when temperature exceeds TOS. Device configuration defines means to clear over-temperature state.", 4 VDD (power) "Supply Voltage 2.7V - 5.5V input power pin.", 5 SDA (io) "Data input/output pin for 2-wire serial communication port. In the standalone thermostat mode, this input selects hysteresis."

## DS1775R2+T&R
designator U?
Tiny Digital Thermometer and Thermostat, 9 to 12 Bits Temperature Resolution, -55 to 125 degC, 5-Pin SOT23 (U5+1), Pb-Free, Tape and Reel; Generic Part Number: DS1775; PartNumber: DS1775R2+T&R; Interface: 2-Wire/I2C/SMBus; Multi Droppable: Yes; Parasite Pwr.: No; DatasheetVersion: Rev. 1; PackageVersion: Rev. G, 04/2011; PackageReference: U5+1; PackageDescription: 5-Pin Small-Outline Transistor Package (U5+1), Body 2.90 x 1.625 mm, Pitch 0.95 mm; Supplier 1: Digi-Key; Supplier Part Number 1: DS1775R2+T&R-ND; Supplier 2: Mouser; Supplier Part Number 2: 700-DS1775R2T&R; Packing: Tape and Reel; Mounting Technology: Surface Mount; Code_JEDEC: MO178; ComponentLink1Description: Manufacturer URL; ComponentLink1URL: http://www.maximintegrated.com/; ComponentLink2Description: Datasheet; ComponentLink2URL: http://datasheets.maximintegrated.com/en/ds/DS1775-DS1775R.pdf; ComponentLink3Description: Package Specification; ComponentLink3URL: http://pdfserv.maximintegrated.com/package_dwgs/21-0057.PDF
footprint MAXM-U5+1_N (SOT23, 5-Leads, Body 2.9x1.625mm, Pitch 0.95mm, IPC Medium Density)
footprint MAXM-U5+1_L (SOT23, 5-Leads, Body 2.9x1.625mm, Pitch 0.95mm, IPC High Density)
footprint MAXM-U5+1_M (SOT23, 5-Leads, Body 2.9x1.625mm, Pitch 0.95mm, IPC Low Density)
pins: 1 SCL (in) "Clock input/output pin for 2-wire serial communication port. This input should be tied to GND for standalone thermostat operation.", 2 GND (power) "Ground pin.", 3 OS (oc) "Thermostat output Open-drain output becomes active when temperature exceeds TOS. Device configuration defines means to clear over-temperature state.", 4 VDD (power) "Supply Voltage 2.7V - 5.5V input power pin.", 5 SDA (io) "Data input/output pin for 2-wire serial communication port. In the standalone thermostat mode, this input selects hysteresis."

## DS1775R2+U
designator U?
Tiny Digital Thermometer and Thermostat, 9 to 12 Bits Temperature Resolution, -55 to 125 degC, 5-Pin SOT23 (U5+1), Pb-Free; Generic Part Number: DS1775; PartNumber: DS1775R2+U; Interface: 2-Wire/I2C/SMBus; Multi Droppable: Yes; Parasite Pwr.: No; DatasheetVersion: Rev. 1; PackageVersion: Rev. G, 04/2011; PackageReference: U5+1; PackageDescription: 5-Pin Small-Outline Transistor Package (U5+1), Body 2.90 x 1.625 mm, Pitch 0.95 mm; Supplier 1: Mouser; Supplier Part Number 1: N/A; Mounting Technology: Surface Mount; Code_JEDEC: MO178; ComponentLink1Description: Manufacturer URL; ComponentLink1URL: http://www.maximintegrated.com/; ComponentLink2Description: Datasheet; ComponentLink2URL: http://datasheets.maximintegrated.com/en/ds/DS1775-DS1775R.pdf; ComponentLink3Description: Package Specification; ComponentLink3URL: http://pdfserv.maximintegrated.com/package_dwgs/21-0057.PDF
footprint MAXM-U5+1_N (SOT23, 5-Leads, Body 2.9x1.625mm, Pitch 0.95mm, IPC Medium Density)
footprint MAXM-U5+1_L (SOT23, 5-Leads, Body 2.9x1.625mm, Pitch 0.95mm, IPC High Density)
footprint MAXM-U5+1_M (SOT23, 5-Leads, Body 2.9x1.625mm, Pitch 0.95mm, IPC Low Density)
pins: 1 SCL (in) "Clock input/output pin for 2-wire serial communication port. This input should be tied to GND for standalone thermostat operation.", 2 GND (power) "Ground pin.", 3 OS (oc) "Thermostat output Open-drain output becomes active when temperature exceeds TOS. Device configuration defines means to clear over-temperature state.", 4 VDD (power) "Supply Voltage 2.7V - 5.5V input power pin.", 5 SDA (io) "Data input/output pin for 2-wire serial communication port. In the standalone thermostat mode, this input selects hysteresis."

## DS1775R2-U
designator U?
Tiny Digital Thermometer and Thermostat, 9 to 12 Bits Temperature Resolution, -55 to 125 degC, 5-Pin SOT23 (U5-1); Generic Part Number: DS1775; PartNumber: DS1775R2-U; Interface: 2-Wire/I2C/SMBus; Multi Droppable: Yes; Parasite Pwr.: No; DatasheetVersion: Rev. 1; PackageVersion: Rev. G, 04/2011; PackageReference: U5-1; PackageDescription: 5-Pin Small-Outline Transistor Package (U5-1), Body 2.9 x 1.625 mm, Pitch 0.95 mm; Supplier 1: Mouser; Supplier Part Number 1: N/A; Mounting Technology: Surface Mount; Code_JEDEC: MO178; ComponentLink1Description: Manufacturer URL; ComponentLink1URL: http://www.maximintegrated.com/; ComponentLink2Description: Datasheet; ComponentLink2URL: http://datasheets.maximintegrated.com/en/ds/DS1775-DS1775R.pdf; ComponentLink3Description: Package Specification; ComponentLink3URL: http://pdfserv.maximintegrated.com/package_dwgs/21-0057.PDF
footprint MAXM-U5-1_N (SOT23, 5-Leads, Body 2.9x1.625mm, Pitch 0.95mm, IPC Medium Density)
footprint MAXM-U5-1_L (SOT23, 5-Leads, Body 2.9x1.625mm, Pitch 0.95mm, IPC High Density)
footprint MAXM-U5-1_M (SOT23, 5-Leads, Body 2.9x1.625mm, Pitch 0.95mm, IPC Low Density)
pins: 1 SCL (in) "Clock input/output pin for 2-wire serial communication port. This input should be tied to GND for standalone thermostat operation.", 2 GND (power) "Ground pin.", 3 OS (oc) "Thermostat output Open-drain output becomes active when temperature exceeds TOS. Device configuration defines means to clear over-temperature state.", 4 VDD (power) "Supply Voltage 2.7V - 5.5V input power pin.", 5 SDA (io) "Data input/output pin for 2-wire serial communication port. In the standalone thermostat mode, this input selects hysteresis."

## DS1775R3+T&R
designator U?
Tiny Digital Thermometer and Thermostat, 9 to 12 Bits Temperature Resolution, -55 to 125 degC, 5-Pin SOT23 (U5+1), Pb-Free, Tape and Reel; Generic Part Number: DS1775; PartNumber: DS1775R3+T&R; Interface: 2-Wire/I2C/SMBus; Multi Droppable: Yes; Parasite Pwr.: No; DatasheetVersion: Rev. 1; PackageVersion: Rev. G, 04/2011; PackageReference: U5+1; PackageDescription: 5-Pin Small-Outline Transistor Package (U5+1), Body 2.90 x 1.625 mm, Pitch 0.95 mm; Supplier 1: Digi-Key; Supplier Part Number 1: DS1775R3+T&R-ND; Supplier 2: Mouser; Supplier Part Number 2: 700-DS1775R3T&R; Packing: Tape and Reel; Mounting Technology: Surface Mount; Code_JEDEC: MO178; ComponentLink1Description: Manufacturer URL; ComponentLink1URL: http://www.maximintegrated.com/; ComponentLink2Description: Datasheet; ComponentLink2URL: http://datasheets.maximintegrated.com/en/ds/DS1775-DS1775R.pdf; ComponentLink3Description: Package Specification; ComponentLink3URL: http://pdfserv.maximintegrated.com/package_dwgs/21-0057.PDF
footprint MAXM-U5+1_N (SOT23, 5-Leads, Body 2.9x1.625mm, Pitch 0.95mm, IPC Medium Density)
footprint MAXM-U5+1_L (SOT23, 5-Leads, Body 2.9x1.625mm, Pitch 0.95mm, IPC High Density)
footprint MAXM-U5+1_M (SOT23, 5-Leads, Body 2.9x1.625mm, Pitch 0.95mm, IPC Low Density)
pins: 1 SCL (in) "Clock input/output pin for 2-wire serial communication port. This input should be tied to GND for standalone thermostat operation.", 2 GND (power) "Ground pin.", 3 OS (oc) "Thermostat output Open-drain output becomes active when temperature exceeds TOS. Device configuration defines means to clear over-temperature state.", 4 VDD (power) "Supply Voltage 2.7V - 5.5V input power pin.", 5 SDA (io) "Data input/output pin for 2-wire serial communication port. In the standalone thermostat mode, this input selects hysteresis."

## DS1775R3+U
designator U?
Tiny Digital Thermometer and Thermostat, 9 to 12 Bits Temperature Resolution, -55 to 125 degC, 5-Pin SOT23 (U5+1), Pb-Free; Generic Part Number: DS1775; PartNumber: DS1775R3+U; Interface: 2-Wire/I2C/SMBus; Multi Droppable: Yes; Parasite Pwr.: No; DatasheetVersion: Rev. 1; PackageVersion: Rev. G, 04/2011; PackageReference: U5+1; PackageDescription: 5-Pin Small-Outline Transistor Package (U5+1), Body 2.90 x 1.625 mm, Pitch 0.95 mm; Supplier 1: Mouser; Supplier Part Number 1: 700-DS1775R3+U; Mounting Technology: Surface Mount; Code_JEDEC: MO178; ComponentLink1Description: Manufacturer URL; ComponentLink1URL: http://www.maximintegrated.com/; ComponentLink2Description: Datasheet; ComponentLink2URL: http://datasheets.maximintegrated.com/en/ds/DS1775-DS1775R.pdf; ComponentLink3Description: Package Specification; ComponentLink3URL: http://pdfserv.maximintegrated.com/package_dwgs/21-0057.PDF
footprint MAXM-U5+1_N (SOT23, 5-Leads, Body 2.9x1.625mm, Pitch 0.95mm, IPC Medium Density)
footprint MAXM-U5+1_L (SOT23, 5-Leads, Body 2.9x1.625mm, Pitch 0.95mm, IPC High Density)
footprint MAXM-U5+1_M (SOT23, 5-Leads, Body 2.9x1.625mm, Pitch 0.95mm, IPC Low Density)
pins: 1 SCL (in) "Clock input/output pin for 2-wire serial communication port. This input should be tied to GND for standalone thermostat operation.", 2 GND (power) "Ground pin.", 3 OS (oc) "Thermostat output Open-drain output becomes active when temperature exceeds TOS. Device configuration defines means to clear over-temperature state.", 4 VDD (power) "Supply Voltage 2.7V - 5.5V input power pin.", 5 SDA (io) "Data input/output pin for 2-wire serial communication port. In the standalone thermostat mode, this input selects hysteresis."